# Altium footprint library PcbLib1.PcbLib: 6 footprints
Each footprint in its own frame and in the unit in brackets; x right, y up, seen from the top. Pads: shape width x height; smd on the part's side, far side on the other; paste and mask are expansions set on the pad; w line width, h text height; cw(c..) or ccw(c..) is an arc to the next point about the centre after c.
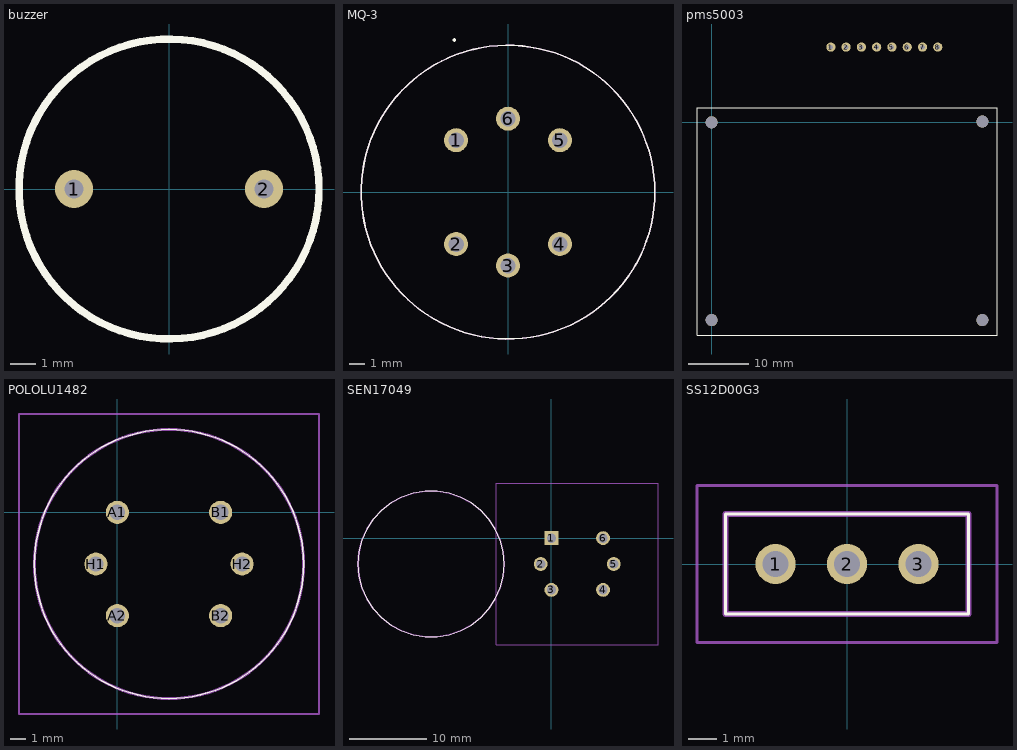
[diagram p0: the footprints below, top view; thin cyan lines are the x and y axes]

## buzzer [mil]
pads (2):
  round 60 hole 30: 1(-149.61,0) 2(149.61,0)
Top Overlay:
  circle w11.81: c0,0 r236.22

## MQ-3 [mm]
pads (6):
  round 1.55 hole 1: 1(-3.359,3.359) 2(-3.359,-3.359) 3(0,-4.75) 4(3.359,-3.359) 5(3.359,3.359) 6(0,4.75)
Top Overlay:
  circle w0.1: c0,0 r9.5
  circle w0.1: c-3.47,9.84 r0.065
Mechanical 13:
  circle w0.1: c0,0 r9.5
3D body "SEN-08880.stp": height 10.04, standoff -6.46, extent -8.397,-8.4 8.397,8.4

## pms5003 [mil]
pads (12):
  round 60 hole 30: 1(780.08,492.13) 2(880.08,492.13) 3(980.08,492.13) 4(1080.08,492.13) 5(1180.08,492.13) 6(1280.08,492.13) 7(1380.08,492.13) 8(1480.08,492.13)
  round 78.74 hole 78.74: ""(0,-1294.21) ""(0,0) ""(1771.65,-1294.21) ""(1771.65,5)
Top Overlay:
  lines w5: -95.93,-1395.14 1867.58,-1395.14 1867.58,95.93 -95.93,95.93 -95.93,-1395.14

## POLOLU1482 [mm]
pads (6):
  round 1.5 hole 1: A1(0,0) A2(0,-6.718) B1(6.718,0) B2(6.718,-6.718) H1(-1.391,-3.359) H2(8.109,-3.359)
Top Overlay:
  lines w0.1: -5.391,-3.359 cw(c3.359,-3.359) 12.109,-3.359 cw(c3.359,-3.359) -5.391,-3.359
Mechanical 13:
  lines w0.2: -5.391,-3.359 cw(c3.359,-3.359) 12.109,-3.359 cw(c3.359,-3.359) -5.391,-3.359
Mechanical 15:
  lines w0.1: -6.391,-13.109 -6.391,6.391 13.109,6.391 13.109,-13.109 -6.391,-13.109
3D body "POLOLU-1482.stp": height 14.6, standoff -5, extent -5.391,-12.109 12.109,5.391

## SEN17049 [mm]
pads (6):
  rect 1.8x1.8 hole 1.2: 1(0,0)
  round 1.8 hole 1.2: 2(-1.391,-3.359) 3(0,-6.718) 4(6.718,-6.718) 5(8.109,-3.359) 6(6.718,0)
Top Overlay:
  lines w0.1: -25.141,-3.359 cw(c-15.641,-3.359) -6.141,-3.359 cw(c-15.641,-3.359) -25.141,-3.359
Mechanical 13:
  lines w0.2: -25.141,-3.359 cw(c-15.641,-3.359) -6.141,-3.359 cw(c-15.641,-3.359) -25.141,-3.359
Mechanical 15:
  lines w0.1: -7.141,-13.859 13.859,-13.859 13.859,7.141 -7.141,7.141 -7.141,-13.859
3D body "SEN-17049.stp": height 20.1, standoff -5, extent -6.141,-12.859 12.859,6.141

## SS12D00G3 [mm]
pads (3):
  round 1.4 hole 0.9: 1(-2.5,0) 2(0,0) 3(2.5,0)
Top Overlay:
  lines w0.1: -4.25,-1.75 -4.25,1.75 4.25,1.75 4.25,-1.75 -4.25,-1.75
Mechanical 13:
  lines w0.2: -4.25,-1.75 -4.25,1.75 4.25,1.75 4.25,-1.75 -4.25,-1.75
Mechanical 15:
  lines w0.1: -5.25,-2.75 -5.25,2.75 5.25,2.75 5.25,-2.75 -5.25,-2.75
3D body "SS12D00G3.stp": height 7.1, standoff -5, extent -4.25,-1.75 4.25,1.75